# Altium integrated library My Own Capacitors.IntLib: 27 symbols
Pins are listed as number, name and electrical type; pins without a type are passive.

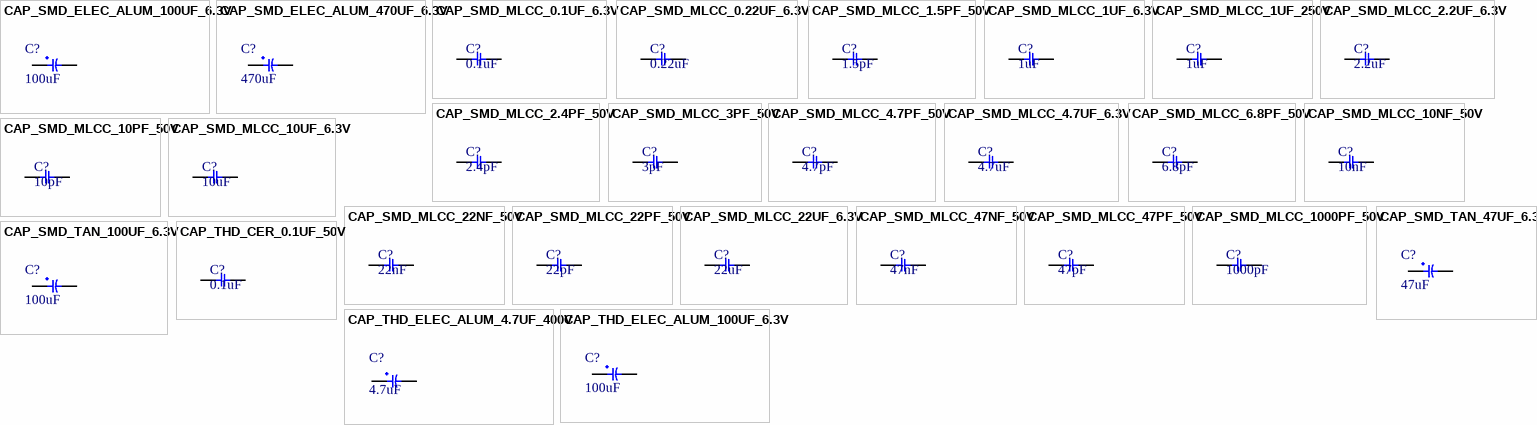
[diagram p0: symbols CAP_SMD_ELEC_ALUM_100UF_6.3V to CAP_THD_ELEC_ALUM_100UF_6.3V]

## CAP_SMD_ELEC_ALUM_100UF_6.3V
designator C?, comment 100uF
Capacitor, Aluminum Electrolytic Capacitor, SMD, D5xL5.4mm, 100uF, 6.3V, ±20%, Aluminum Electrolytic Capacitors - SMD, ROHS; Value: 100uF
footprint CAP_SMD_ELEC_ALUM_5MM_H5.4MM (Aluminum SMD Electrolytic Capacitor, 5.30mm Land Size, 5.00mm Diameter, 4.60mm Height, 5.50mm Maximum Leads Span)
footprint CAP_SMD_ELEC_ALUM_5MM_H5.4MM_SHORT (Aluminum SMD Electrolytic Capacitor, 5.30mm Land Size, 5.00mm Diameter, 4.60mm Height, 5.50mm Maximum Leads Span)
pins: 1, 2

## CAP_SMD_ELEC_ALUM_470UF_6.3V
designator C?, comment 470uF
Capacitor, Aluminum Electrolytic Capacitor, SMD, D6.3xL7.7mm, 470uF, 6.3V, ±20%, Aluminum Electrolytic Capacitors - SMD, ROHS; Value: 470uF
footprint CAP_SMD_ELEC_ALUM_6.3MM_H7.7MM (Electrolytic Cap, D: 6.3mm L: 7.7mm, Size D)
pins: 1, 2

## CAP_SMD_MLCC_0.1UF_6.3V
designator C?, comment 0.1uF
Capacitor, Ceramic (MLCC), SMD, 100nF, 6.3V, ±10%, X7R, Multilayer Ceramic Capacitors MLCC - SMD/SMT, ROHS; Part Number: LLM315R71C104MA11L; Manufacturer: Murata Electronics North America; Factory Stock: 0; Unit Price (USD): 0.9; Minimum Quantity: 1; Tolerance: ±20%; Voltage: 16V; Datasheets: http://www.murata.com/~/media/webrenewal/support/library/catalog/products/capacitor/mlcc/c02e.pdf; Image: //media.digikey.com/Renders/Murata%20Renders/1206(LLM315).jpg; Digi-Key Part Number: 490-4495-1-ND; Quantity Available: 2915; @ qty: 0; Packaging: Cut Tape (CT); Series: LLM; Part Status: Active; Value: 0.1uF; Temperature Coefficient: X7R; Operating Temperature: -55°C ~ 125°C; Features: Low ESL (Multi-Terminal); Ratings: -; Applications: Bypass, Decoupling; Mounting Type: Surface Mount, MLCC; Package / Case: -; Size / Dimension: -; Height - Seated (Max): -; Thickness (Max): -; Lead Spacing: -; Lead Style: -
footprint CAP_SMD_MLCC_C0201A_(M0603A) (CHIP Capacitor, 0.5x0.25mm, for PCBA)
footprint CAP_SMD_MLCC_C0201_(M0603) (CHIP Capacitor, 0.5x0.25mm)
footprint CAP_SMD_MLCC_C0402A_(M1005A) (CHIP Capacitor, 1.0x0.5mm, 0402, for PCBA)
footprint CAP_SMD_MLCC_C0402_(M1005) (CHIP Capacitor, 1.0x0.5mm, 0402)
footprint CAP_SMD_MLCC_C0603A_(M1608A) (CHIP Capacitor, 1.6x0.8mm, 0603 for PCBA)
footprint CAP_SMD_MLCC_C0603_(M1608) (CHIP Capacitor, 1.6x0.8mm, 0603)
footprint CAP_SMD_MLCC_C0805A_(M2012A) (CHIP Capacitor, 2.0X1.3mm, 0805, for PCBA)
footprint CAP_SMD_MLCC_C0805_(M2012) (CHIP Capacitor, 2.0X1.3mm, 0805)
footprint CAP_SMD_MLCC_C1206A_(M3216A) (CHIP Capacitor, 3.2X1.6mm, 1206, for PCBA)
footprint CAP_SMD_MLCC_C1206_(M3216) (CHIP Capacitor, 3.2X1.6mm, 1206)
footprint CAP_SMD_MLCC_C1812_(M4532) (Chip Capacitor, 4.5x3.2mm, 1812)
footprint CAP_SMD_MLCC_C1210_(M3225) (CHIP Capacitor, 3.2X2.5mm, 1210, 3225)
footprint CAP_SMD_MLCC_C0603_(M1608)_C0402A_(M1005A) (Resistor, SMD, 1.6x0.8mm, 0603)
footprint CAP_SMD_MLCC_C0603_(M1608)_C0402A_(M1005A)_THD/SMD_SMD (Resistor, SMD, 1.6x0.8mm, 0603)
pins: 1, 2

## CAP_SMD_MLCC_0.22UF_6.3V
designator C?, comment 0.22uF
Capacitor, Ceramic (MLCC), SMD, 220nF, 6.3V, ±10%, X7R, Multilayer Ceramic Capacitors MLCC - SMD/SMT, ROHS; Part Number: GRM319R71C224KA01D; Manufacturer: Murata Electronics North America; Factory Stock: 0; Unit Price (USD): 0.26; Minimum Quantity: 1; Voltage: 16V; Datasheets: http://www.murata.com/~/media/webrenewal/support/library/catalog/products/capacitor/mlcc/c02e.pdf; Image: //media.digikey.com/Renders/Murata%20Renders/GR331BD72E473KW01L.jpg; Digi-Key Part Number: 490-11608-1-ND; Quantity Available: 10161; @ qty: 0; Packaging: Cut Tape (CT); Series: GRM; Part Status: Active; Value: 0.22uF; Tolerance: ±10%; Temperature Coefficient: X7R; Operating Temperature: -55°C ~ 125°C; Features: -; Ratings: -; Applications: General Purpose; Mounting Type: Surface Mount, MLCC; Package / Case: -; Size / Dimension: -; Height - Seated (Max): -; Thickness (Max): -; Lead Spacing: -; Lead Style: -
footprint CAP_SMD_MLCC_C0201A_(M0603A) (CHIP Capacitor, 0.5x0.25mm, for PCBA)
footprint CAP_SMD_MLCC_C0201_(M0603) (CHIP Capacitor, 0.5x0.25mm)
footprint CAP_SMD_MLCC_C0402A_(M1005A) (CHIP Capacitor, 1.0x0.5mm, 0402, for PCBA)
footprint CAP_SMD_MLCC_C0402_(M1005) (CHIP Capacitor, 1.0x0.5mm, 0402)
footprint CAP_SMD_MLCC_C0603A_(M1608A) (CHIP Capacitor, 1.6x0.8mm, 0603 for PCBA)
footprint CAP_SMD_MLCC_C0603_(M1608) (CHIP Capacitor, 1.6x0.8mm, 0603)
footprint CAP_SMD_MLCC_C0805A_(M2012A) (CHIP Capacitor, 2.0X1.3mm, 0805, for PCBA)
footprint CAP_SMD_MLCC_C0805_(M2012) (CHIP Capacitor, 2.0X1.3mm, 0805)
footprint CAP_SMD_MLCC_C1206A_(M3216A) (CHIP Capacitor, 3.2X1.6mm, 1206, for PCBA)
footprint CAP_SMD_MLCC_C1206_(M3216) (CHIP Capacitor, 3.2X1.6mm, 1206)
footprint CAP_SMD_MLCC_C1812_(M4532) (Chip Capacitor, 4.5x3.2mm, 1812)
footprint CAP_SMD_MLCC_C1210_(M3225) (CHIP Capacitor, 3.2X2.5mm, 1210, 3225)
footprint CAP_SMD_MLCC_C0603_(M1608)_C0402A_(M1005A) (Resistor, SMD, 1.6x0.8mm, 0603)
pins: 1, 2

## CAP_SMD_MLCC_1.5PF_50V
designator C?, comment 1.5pF
Capacitor, Ceramic (MLCC), SMD, 1.5pF, 50V, ±5%, C0G, Multilayer Ceramic Capacitors MLCC - SMD/SMT, ROHS; Part Number: GRM319R71C224KA01D; Manufacturer: Murata Electronics North America; Factory Stock: 0; Unit Price (USD): 0.26; Minimum Quantity: 1; Tolerance: ±10%; Voltage: 16V; Temperature Coefficient: X7R; Datasheets: http://www.murata.com/~/media/webrenewal/support/library/catalog/products/capacitor/mlcc/c02e.pdf; Image: //media.digikey.com/Renders/Murata%20Renders/GR331BD72E473KW01L.jpg; Digi-Key Part Number: 490-11608-1-ND; Quantity Available: 10161; @ qty: 0; Packaging: Cut Tape (CT); Series: GRM; Part Status: Active; Value: 1.5pF; Operating Temperature: -55°C ~ 125°C; Features: -; Ratings: -; Applications: General Purpose; Mounting Type: Surface Mount, MLCC; Package / Case: -; Size / Dimension: -; Height - Seated (Max): -; Thickness (Max): -; Lead Spacing: -; Lead Style: -
footprint CAP_SMD_MLCC_C0201A_(M0603A) (CHIP Capacitor, 0.5x0.25mm, for PCBA)
footprint CAP_SMD_MLCC_C0201_(M0603) (CHIP Capacitor, 0.5x0.25mm)
footprint CAP_SMD_MLCC_C0402A_(M1005A) (CHIP Capacitor, 1.0x0.5mm, 0402, for PCBA)
footprint CAP_SMD_MLCC_C0402_(M1005) (CHIP Capacitor, 1.0x0.5mm, 0402)
footprint CAP_SMD_MLCC_C0603A_(M1608A) (CHIP Capacitor, 1.6x0.8mm, 0603 for PCBA)
footprint CAP_SMD_MLCC_C0603_(M1608) (CHIP Capacitor, 1.6x0.8mm, 0603)
footprint CAP_SMD_MLCC_C0805A_(M2012A) (CHIP Capacitor, 2.0X1.3mm, 0805, for PCBA)
footprint CAP_SMD_MLCC_C0805_(M2012) (CHIP Capacitor, 2.0X1.3mm, 0805)
footprint CAP_SMD_MLCC_C1206A_(M3216A) (CHIP Capacitor, 3.2X1.6mm, 1206, for PCBA)
footprint CAP_SMD_MLCC_C1206_(M3216) (CHIP Capacitor, 3.2X1.6mm, 1206)
footprint CAP_SMD_MLCC_C1812_(M4532) (Chip Capacitor, 4.5x3.2mm, 1812)
footprint CAP_SMD_MLCC_C1210_(M3225) (CHIP Capacitor, 3.2X2.5mm, 1210, 3225)
footprint CAP_SMD_MLCC_C0603_(M1608)_C0402A_(M1005A) (Resistor, SMD, 1.6x0.8mm, 0603)
pins: 1, 2

## CAP_SMD_MLCC_1UF_6.3V
designator C?, comment 1uF
Capacitor, Ceramic (MLCC), SMD, 1uF, 6.3V, ±10%, X5R, Multilayer Ceramic Capacitors MLCC - SMD/SMT, ROHS; Part Number: GRM319R61A105KA01D; Manufacturer: Murata Electronics North America; Factory Stock: 0; Unit Price (USD): 0.28; Minimum Quantity: 1; Voltage: 10V; Datasheets: http://www.murata.com/~/media/webrenewal/support/library/catalog/products/capacitor/mlcc/c02e.pdf; Image: //media.digikey.com/Renders/Murata%20Renders/GR331BD72E473KW01L.jpg; Digi-Key Part Number: 490-11607-1-ND; Quantity Available: 3593; @ qty: 0; Packaging: Cut Tape (CT); Series: GRM; Part Status: Active; Value: 1uF; Tolerance: ±10%; Temperature Coefficient: X5R; Operating Temperature: -55°C ~ 85°C; Features: -; Ratings: -; Applications: General Purpose; Mounting Type: Surface Mount, MLCC; Package / Case: -; Size / Dimension: -; Height - Seated (Max): -; Thickness (Max): -; Lead Spacing: -; Lead Style: -
footprint CAP_SMD_MLCC_C0201A_(M0603A) (CHIP Capacitor, 0.5x0.25mm, for PCBA)
footprint CAP_SMD_MLCC_C0201_(M0603) (CHIP Capacitor, 0.5x0.25mm)
footprint CAP_SMD_MLCC_C0402A_(M1005A) (CHIP Capacitor, 1.0x0.5mm, 0402, for PCBA)
footprint CAP_SMD_MLCC_C0402_(M1005) (CHIP Capacitor, 1.0x0.5mm, 0402)
footprint CAP_SMD_MLCC_C0603A_(M1608A) (CHIP Capacitor, 1.6x0.8mm, 0603 for PCBA)
footprint CAP_SMD_MLCC_C0603_(M1608) (CHIP Capacitor, 1.6x0.8mm, 0603)
footprint CAP_SMD_MLCC_C0805A_(M2012A) (CHIP Capacitor, 2.0X1.3mm, 0805, for PCBA)
footprint CAP_SMD_MLCC_C0805_(M2012) (CHIP Capacitor, 2.0X1.3mm, 0805)
footprint CAP_SMD_MLCC_C1206A_(M3216A) (CHIP Capacitor, 3.2X1.6mm, 1206, for PCBA)
footprint CAP_SMD_MLCC_C1206_(M3216) (CHIP Capacitor, 3.2X1.6mm, 1206)
footprint CAP_SMD_MLCC_C1812_(M4532) (Chip Capacitor, 4.5x3.2mm, 1812)
footprint CAP_SMD_MLCC_C1210_(M3225) (CHIP Capacitor, 3.2X2.5mm, 1210, 3225)
footprint CAP_SMD_MLCC_C0603_(M1608)_C0402A_(M1005A) (Resistor, SMD, 1.6x0.8mm, 0603)
pins: 1, 2

## CAP_SMD_MLCC_1UF_250V
designator C?, comment 1uF
Capacitor, Ceramic (MLCC), SMD, 1uF, 250V, ±10%, X7R, Multilayer Ceramic Capacitors MLCC - SMD/SMT, ROHS; Part Number: GRM319R61A105KA01D; Manufacturer: Murata Electronics North America; Factory Stock: 0; Unit Price (USD): 0.28; Minimum Quantity: 1; Voltage: 10V; Temperature Coefficient: X5R; Datasheets: http://www.murata.com/~/media/webrenewal/support/library/catalog/products/capacitor/mlcc/c02e.pdf; Image: //media.digikey.com/Renders/Murata%20Renders/GR331BD72E473KW01L.jpg; Digi-Key Part Number: 490-11607-1-ND; Quantity Available: 3593; @ qty: 0; Packaging: Cut Tape (CT); Series: GRM; Part Status: Active; Value: 1uF; Tolerance: ±10%; Operating Temperature: -55°C ~ 85°C; Features: -; Ratings: -; Applications: General Purpose; Mounting Type: Surface Mount, MLCC; Package / Case: -; Size / Dimension: -; Height - Seated (Max): -; Thickness (Max): -; Lead Spacing: -; Lead Style: -
footprint CAP_SMD_MLCC_C1812_(M4532) (Chip Capacitor, 4.5x3.2mm, 1812)
footprint CAP_SMD_MLCC_C1210_(M3225) (CHIP Capacitor, 3.2X2.5mm, 1210, 3225)
footprint CAP_SMD_MLCC_C1210A_(M3225) (CHIP Capacitor, 3.2X2.5mm, 1210, for PCBA)
footprint CAP_THD_ELEC_ALUM_D8.0MM_H12.5MM_SHORT _SMD_C1828_#3_SMD (8MM Diameter, 3.5MM Lead Spacing Aluminium Capacitor)
pins: 1, 2

## CAP_SMD_MLCC_2.2UF_6.3V
designator C?, comment 2.2uF
Capacitor, Ceramic (MLCC), SMD, 2.2uF, 6.3V, ±10%, X5R, Multilayer Ceramic Capacitors MLCC - SMD/SMT, ROHS; Part Number: LLA315R70J225MA14L; Manufacturer: Murata Electronics North America; Factory Stock: 0; Unit Price (USD): 0.67; Minimum Quantity: 1; Tolerance: ±20%; Temperature Coefficient: X7R; Datasheets: http://www.murata.com/~/media/webrenewal/support/library/catalog/products/capacitor/mlcc/c02e.pdf; Image: //media.digikey.com/Renders/Murata%20Renders/LLA_1206(3216).jpg; Digi-Key Part Number: 490-4454-1-ND; Quantity Available: 7826; @ qty: 0; Packaging: Cut Tape (CT); Series: LLA; Part Status: Active; Value: 2.2uF; Voltage: 6.3V; Operating Temperature: -55°C ~ 125°C; Features: Low ESL (Multi-Terminal); Ratings: -; Applications: Bypass, Decoupling; Mounting Type: Surface Mount, MLCC; Package / Case: -; Size / Dimension: -; Height - Seated (Max): -; Thickness (Max): -; Lead Spacing: -; Lead Style: -
footprint CAP_SMD_MLCC_C0201A_(M0603A) (CHIP Capacitor, 0.5x0.25mm, for PCBA)
footprint CAP_SMD_MLCC_C0201_(M0603) (CHIP Capacitor, 0.5x0.25mm)
footprint CAP_SMD_MLCC_C0402A_(M1005A) (CHIP Capacitor, 1.0x0.5mm, 0402, for PCBA)
footprint CAP_SMD_MLCC_C0402_(M1005) (CHIP Capacitor, 1.0x0.5mm, 0402)
footprint CAP_SMD_MLCC_C0603A_(M1608A) (CHIP Capacitor, 1.6x0.8mm, 0603 for PCBA)
footprint CAP_SMD_MLCC_C0603_(M1608) (CHIP Capacitor, 1.6x0.8mm, 0603)
footprint CAP_SMD_MLCC_C0805A_(M2012A) (CHIP Capacitor, 2.0X1.3mm, 0805, for PCBA)
footprint CAP_SMD_MLCC_C0805_(M2012) (CHIP Capacitor, 2.0X1.3mm, 0805)
footprint CAP_SMD_MLCC_C1206A_(M3216A) (CHIP Capacitor, 3.2X1.6mm, 1206, for PCBA)
footprint CAP_SMD_MLCC_C1206_(M3216) (CHIP Capacitor, 3.2X1.6mm, 1206)
footprint CAP_SMD_MLCC_C1812_(M4532) (Chip Capacitor, 4.5x3.2mm, 1812)
footprint CAP_SMD_MLCC_C1210_(M3225) (CHIP Capacitor, 3.2X2.5mm, 1210, 3225)
footprint CAP_SMD_MLCC_C0603_(M1608)_C0402A_(M1005A) (Resistor, SMD, 1.6x0.8mm, 0603)
pins: 1, 2

## CAP_SMD_MLCC_2.4PF_50V
designator C?, comment 2.4pF
Capacitor, Ceramic (MLCC), SMD, 2.4pF, 50V, ±5%, C0G, Multilayer Ceramic Capacitors MLCC - SMD/SMT, ROHS; Part Number: GRM319R71C224KA01D; Manufacturer: Murata Electronics North America; Factory Stock: 0; Unit Price (USD): 0.26; Minimum Quantity: 1; Tolerance: ±10%; Voltage: 16V; Temperature Coefficient: X7R; Datasheets: http://www.murata.com/~/media/webrenewal/support/library/catalog/products/capacitor/mlcc/c02e.pdf; Image: //media.digikey.com/Renders/Murata%20Renders/GR331BD72E473KW01L.jpg; Digi-Key Part Number: 490-11608-1-ND; Quantity Available: 10161; @ qty: 0; Packaging: Cut Tape (CT); Series: GRM; Part Status: Active; Value: 2.4pF; Operating Temperature: -55°C ~ 125°C; Features: -; Ratings: -; Applications: General Purpose; Mounting Type: Surface Mount, MLCC; Package / Case: -; Size / Dimension: -; Height - Seated (Max): -; Thickness (Max): -; Lead Spacing: -; Lead Style: -
footprint CAP_SMD_MLCC_C0201A_(M0603A) (CHIP Capacitor, 0.5x0.25mm, for PCBA)
footprint CAP_SMD_MLCC_C0201_(M0603) (CHIP Capacitor, 0.5x0.25mm)
footprint CAP_SMD_MLCC_C0402A_(M1005A) (CHIP Capacitor, 1.0x0.5mm, 0402, for PCBA)
footprint CAP_SMD_MLCC_C0402_(M1005) (CHIP Capacitor, 1.0x0.5mm, 0402)
footprint CAP_SMD_MLCC_C0603A_(M1608A) (CHIP Capacitor, 1.6x0.8mm, 0603 for PCBA)
footprint CAP_SMD_MLCC_C0603_(M1608) (CHIP Capacitor, 1.6x0.8mm, 0603)
footprint CAP_SMD_MLCC_C0805A_(M2012A) (CHIP Capacitor, 2.0X1.3mm, 0805, for PCBA)
footprint CAP_SMD_MLCC_C0805_(M2012) (CHIP Capacitor, 2.0X1.3mm, 0805)
footprint CAP_SMD_MLCC_C1206A_(M3216A) (CHIP Capacitor, 3.2X1.6mm, 1206, for PCBA)
footprint CAP_SMD_MLCC_C1206_(M3216) (CHIP Capacitor, 3.2X1.6mm, 1206)
footprint CAP_SMD_MLCC_C1812_(M4532) (Chip Capacitor, 4.5x3.2mm, 1812)
footprint CAP_SMD_MLCC_C1210_(M3225) (CHIP Capacitor, 3.2X2.5mm, 1210, 3225)
footprint CAP_SMD_MLCC_C0603_(M1608)_C0402A_(M1005A) (Resistor, SMD, 1.6x0.8mm, 0603)
pins: 1, 2

## CAP_SMD_MLCC_3PF_50V
designator C?, comment 3pF
Capacitor, Ceramic (MLCC), SMD, 3pF, 50V, ±5%, C0G, Multilayer Ceramic Capacitors MLCC - SMD/SMT, ROHS; Part Number: GRM319R71C224KA01D; Manufacturer: Murata Electronics North America; Factory Stock: 0; Unit Price (USD): 0.26; Minimum Quantity: 1; Tolerance: ±10%; Voltage: 16V; Temperature Coefficient: X7R; Datasheets: http://www.murata.com/~/media/webrenewal/support/library/catalog/products/capacitor/mlcc/c02e.pdf; Image: //media.digikey.com/Renders/Murata%20Renders/GR331BD72E473KW01L.jpg; Digi-Key Part Number: 490-11608-1-ND; Quantity Available: 10161; @ qty: 0; Packaging: Cut Tape (CT); Series: GRM; Part Status: Active; Value: 3pF; Operating Temperature: -55°C ~ 125°C; Features: -; Ratings: -; Applications: General Purpose; Mounting Type: Surface Mount, MLCC; Package / Case: -; Size / Dimension: -; Height - Seated (Max): -; Thickness (Max): -; Lead Spacing: -; Lead Style: -
footprint CAP_SMD_MLCC_C0201A_(M0603A) (CHIP Capacitor, 0.5x0.25mm, for PCBA)
footprint CAP_SMD_MLCC_C0201_(M0603) (CHIP Capacitor, 0.5x0.25mm)
footprint CAP_SMD_MLCC_C0402A_(M1005A) (CHIP Capacitor, 1.0x0.5mm, 0402, for PCBA)
footprint CAP_SMD_MLCC_C0402_(M1005) (CHIP Capacitor, 1.0x0.5mm, 0402)
footprint CAP_SMD_MLCC_C0603A_(M1608A) (CHIP Capacitor, 1.6x0.8mm, 0603 for PCBA)
footprint CAP_SMD_MLCC_C0603_(M1608) (CHIP Capacitor, 1.6x0.8mm, 0603)
footprint CAP_SMD_MLCC_C0805A_(M2012A) (CHIP Capacitor, 2.0X1.3mm, 0805, for PCBA)
footprint CAP_SMD_MLCC_C0805_(M2012) (CHIP Capacitor, 2.0X1.3mm, 0805)
footprint CAP_SMD_MLCC_C1206A_(M3216A) (CHIP Capacitor, 3.2X1.6mm, 1206, for PCBA)
footprint CAP_SMD_MLCC_C1206_(M3216) (CHIP Capacitor, 3.2X1.6mm, 1206)
footprint CAP_SMD_MLCC_C1812_(M4532) (Chip Capacitor, 4.5x3.2mm, 1812)
footprint CAP_SMD_MLCC_C1210_(M3225) (CHIP Capacitor, 3.2X2.5mm, 1210, 3225)
footprint CAP_SMD_MLCC_C0603_(M1608)_C0402A_(M1005A) (Resistor, SMD, 1.6x0.8mm, 0603)
pins: 1, 2

## CAP_SMD_MLCC_4.7PF_50V
designator C?, comment 4.7pF
Capacitor, Ceramic (MLCC), SMD, 4.7pF, 50V, ±5%, C0G, Multilayer Ceramic Capacitors MLCC - SMD/SMT, ROHS; Part Number: GRM31CR60J106KA01L; Manufacturer: Murata Electronics North America; Factory Stock: 0; Unit Price (USD): 0.24; Minimum Quantity: 1; Tolerance: ±10%; Voltage: 6.3V; Temperature Coefficient: X5R; Datasheets: http://www.murata.com/~/media/webrenewal/support/library/catalog/products/capacitor/mlcc/c02e.pdf; Image: //media.digikey.com/Renders/Murata%20Renders/GR331BD72E473KW01L.jpg; Digi-Key Part Number: 490-12610-1-ND; Quantity Available: 12001; @ qty: 0; Packaging: Cut Tape (CT); Series: GRM; Part Status: Active; Value: 4.7pF; Operating Temperature: -55°C ~ 85°C; Features: -; Ratings: -; Applications: General Purpose; Mounting Type: Surface Mount, MLCC; Package / Case: -; Size / Dimension: -; Height - Seated (Max): -; Thickness (Max): -; Lead Spacing: -; Lead Style: -
footprint CAP_SMD_MLCC_C0201A_(M0603A) (CHIP Capacitor, 0.5x0.25mm, for PCBA)
footprint CAP_SMD_MLCC_C0201_(M0603) (CHIP Capacitor, 0.5x0.25mm)
footprint CAP_SMD_MLCC_C0402A_(M1005A) (CHIP Capacitor, 1.0x0.5mm, 0402, for PCBA)
footprint CAP_SMD_MLCC_C0402_(M1005) (CHIP Capacitor, 1.0x0.5mm, 0402)
footprint CAP_SMD_MLCC_C0603A_(M1608A) (CHIP Capacitor, 1.6x0.8mm, 0603 for PCBA)
footprint CAP_SMD_MLCC_C0603_(M1608) (CHIP Capacitor, 1.6x0.8mm, 0603)
footprint CAP_SMD_MLCC_C0805A_(M2012A) (CHIP Capacitor, 2.0X1.3mm, 0805, for PCBA)
footprint CAP_SMD_MLCC_C0805_(M2012) (CHIP Capacitor, 2.0X1.3mm, 0805)
footprint CAP_SMD_MLCC_C1206A_(M3216A) (CHIP Capacitor, 3.2X1.6mm, 1206, for PCBA)
footprint CAP_SMD_MLCC_C1206_(M3216) (CHIP Capacitor, 3.2X1.6mm, 1206)
footprint CAP_SMD_MLCC_C1812_(M4532) (Chip Capacitor, 4.5x3.2mm, 1812)
footprint CAP_SMD_MLCC_C1210_(M3225) (CHIP Capacitor, 3.2X2.5mm, 1210, 3225)
footprint CAP_SMD_MLCC_C0603_(M1608)_C0402A_(M1005A) (Resistor, SMD, 1.6x0.8mm, 0603)
pins: 1, 2

## CAP_SMD_MLCC_4.7UF_6.3V
designator C?, comment 4.7uF
Capacitor, Ceramic (MLCC), SMD, 4.7uF, 6.3V, ±20%, X5R, Multilayer Ceramic Capacitors MLCC - SMD/SMT, ROHS; Part Number: GRM31CR60J106KA01L; Manufacturer: Murata Electronics North America; Factory Stock: 0; Unit Price (USD): 0.24; Minimum Quantity: 1; Tolerance: ±10%; Datasheets: http://www.murata.com/~/media/webrenewal/support/library/catalog/products/capacitor/mlcc/c02e.pdf; Image: //media.digikey.com/Renders/Murata%20Renders/GR331BD72E473KW01L.jpg; Digi-Key Part Number: 490-12610-1-ND; Quantity Available: 12001; @ qty: 0; Packaging: Cut Tape (CT); Series: GRM; Part Status: Active; Value: 4.7uF; Voltage: 6.3V; Temperature Coefficient: X5R; Operating Temperature: -55°C ~ 85°C; Features: -; Ratings: -; Applications: General Purpose; Mounting Type: Surface Mount, MLCC; Package / Case: -; Size / Dimension: -; Height - Seated (Max): -; Thickness (Max): -; Lead Spacing: -; Lead Style: -
footprint CAP_SMD_MLCC_C0201A_(M0603A) (CHIP Capacitor, 0.5x0.25mm, for PCBA)
footprint CAP_SMD_MLCC_C0201_(M0603) (CHIP Capacitor, 0.5x0.25mm)
footprint CAP_SMD_MLCC_C0402A_(M1005A) (CHIP Capacitor, 1.0x0.5mm, 0402, for PCBA)
footprint CAP_SMD_MLCC_C0402_(M1005) (CHIP Capacitor, 1.0x0.5mm, 0402)
footprint CAP_SMD_MLCC_C0603A_(M1608A) (CHIP Capacitor, 1.6x0.8mm, 0603 for PCBA)
footprint CAP_SMD_MLCC_C0603_(M1608) (CHIP Capacitor, 1.6x0.8mm, 0603)
footprint CAP_SMD_MLCC_C0805A_(M2012A) (CHIP Capacitor, 2.0X1.3mm, 0805, for PCBA)
footprint CAP_SMD_MLCC_C0805_(M2012) (CHIP Capacitor, 2.0X1.3mm, 0805)
footprint CAP_SMD_MLCC_C1206A_(M3216A) (CHIP Capacitor, 3.2X1.6mm, 1206, for PCBA)
footprint CAP_SMD_MLCC_C1206_(M3216) (CHIP Capacitor, 3.2X1.6mm, 1206)
footprint CAP_SMD_MLCC_C1812_(M4532) (Chip Capacitor, 4.5x3.2mm, 1812)
footprint CAP_SMD_MLCC_C1210_(M3225) (CHIP Capacitor, 3.2X2.5mm, 1210, 3225)
footprint CAP_SMD_MLCC_C0603_(M1608)_C0402A_(M1005A) (Resistor, SMD, 1.6x0.8mm, 0603)
pins: 1, 2

## CAP_SMD_MLCC_6.8PF_50V
designator C?, comment 6.8pF
Capacitor, Ceramic (MLCC), SMD, 6.8pF, 50V, ±5%, C0G, Multilayer Ceramic Capacitors MLCC - SMD/SMT, ROHS; Part Number: GRM319R71C224KA01D; Manufacturer: Murata Electronics North America; Factory Stock: 0; Unit Price (USD): 0.26; Minimum Quantity: 1; Tolerance: ±10%; Voltage: 16V; Temperature Coefficient: X7R; Datasheets: http://www.murata.com/~/media/webrenewal/support/library/catalog/products/capacitor/mlcc/c02e.pdf; Image: //media.digikey.com/Renders/Murata%20Renders/GR331BD72E473KW01L.jpg; Digi-Key Part Number: 490-11608-1-ND; Quantity Available: 10161; @ qty: 0; Packaging: Cut Tape (CT); Series: GRM; Part Status: Active; Value: 6.8pF; Operating Temperature: -55°C ~ 125°C; Features: -; Ratings: -; Applications: General Purpose; Mounting Type: Surface Mount, MLCC; Package / Case: -; Size / Dimension: -; Height - Seated (Max): -; Thickness (Max): -; Lead Spacing: -; Lead Style: -
footprint CAP_SMD_MLCC_C0201A_(M0603A) (CHIP Capacitor, 0.5x0.25mm, for PCBA)
footprint CAP_SMD_MLCC_C0201_(M0603) (CHIP Capacitor, 0.5x0.25mm)
footprint CAP_SMD_MLCC_C0402A_(M1005A) (CHIP Capacitor, 1.0x0.5mm, 0402, for PCBA)
footprint CAP_SMD_MLCC_C0402_(M1005) (CHIP Capacitor, 1.0x0.5mm, 0402)
footprint CAP_SMD_MLCC_C0603A_(M1608A) (CHIP Capacitor, 1.6x0.8mm, 0603 for PCBA)
footprint CAP_SMD_MLCC_C0603_(M1608) (CHIP Capacitor, 1.6x0.8mm, 0603)
footprint CAP_SMD_MLCC_C0805A_(M2012A) (CHIP Capacitor, 2.0X1.3mm, 0805, for PCBA)
footprint CAP_SMD_MLCC_C0805_(M2012) (CHIP Capacitor, 2.0X1.3mm, 0805)
footprint CAP_SMD_MLCC_C1206A_(M3216A) (CHIP Capacitor, 3.2X1.6mm, 1206, for PCBA)
footprint CAP_SMD_MLCC_C1206_(M3216) (CHIP Capacitor, 3.2X1.6mm, 1206)
footprint CAP_SMD_MLCC_C1812_(M4532) (Chip Capacitor, 4.5x3.2mm, 1812)
footprint CAP_SMD_MLCC_C1210_(M3225) (CHIP Capacitor, 3.2X2.5mm, 1210, 3225)
footprint CAP_SMD_MLCC_C0603_(M1608)_C0402A_(M1005A) (Resistor, SMD, 1.6x0.8mm, 0603)
pins: 1, 2

## CAP_SMD_MLCC_10NF_50V
designator C?, comment 10nF
Capacitor, Ceramic (MLCC), SMD, 10nF, 50V, ±10%, X7R, Multilayer Ceramic Capacitors MLCC - SMD/SMT, ROHS; Part Number: GRM31CR60J106KA01L; Manufacturer: Murata Electronics North America; Factory Stock: 0; Unit Price (USD): 0.24; Minimum Quantity: 1; Voltage: 6.3V; Temperature Coefficient: X5R; Datasheets: http://www.murata.com/~/media/webrenewal/support/library/catalog/products/capacitor/mlcc/c02e.pdf; Image: //media.digikey.com/Renders/Murata%20Renders/GR331BD72E473KW01L.jpg; Digi-Key Part Number: 490-12610-1-ND; Quantity Available: 12001; @ qty: 0; Packaging: Cut Tape (CT); Series: GRM; Part Status: Active; Value: 10nF; Tolerance: ±10%; Operating Temperature: -55°C ~ 85°C; Features: -; Ratings: -; Applications: General Purpose; Mounting Type: Surface Mount, MLCC; Package / Case: -; Size / Dimension: -; Height - Seated (Max): -; Thickness (Max): -; Lead Spacing: -; Lead Style: -
footprint CAP_SMD_MLCC_C0201A_(M0603A) (CHIP Capacitor, 0.5x0.25mm, for PCBA)
footprint CAP_SMD_MLCC_C0201_(M0603) (CHIP Capacitor, 0.5x0.25mm)
footprint CAP_SMD_MLCC_C0402A_(M1005A) (CHIP Capacitor, 1.0x0.5mm, 0402, for PCBA)
footprint CAP_SMD_MLCC_C0402_(M1005) (CHIP Capacitor, 1.0x0.5mm, 0402)
footprint CAP_SMD_MLCC_C0603A_(M1608A) (CHIP Capacitor, 1.6x0.8mm, 0603 for PCBA)
footprint CAP_SMD_MLCC_C0603_(M1608) (CHIP Capacitor, 1.6x0.8mm, 0603)
footprint CAP_SMD_MLCC_C0805A_(M2012A) (CHIP Capacitor, 2.0X1.3mm, 0805, for PCBA)
footprint CAP_SMD_MLCC_C0805_(M2012) (CHIP Capacitor, 2.0X1.3mm, 0805)
footprint CAP_SMD_MLCC_C1206A_(M3216A) (CHIP Capacitor, 3.2X1.6mm, 1206, for PCBA)
footprint CAP_SMD_MLCC_C1206_(M3216) (CHIP Capacitor, 3.2X1.6mm, 1206)
footprint CAP_SMD_MLCC_C1812_(M4532) (Chip Capacitor, 4.5x3.2mm, 1812)
footprint CAP_SMD_MLCC_C1210_(M3225) (CHIP Capacitor, 3.2X2.5mm, 1210, 3225)
footprint CAP_SMD_MLCC_C0603_(M1608)_C0402A_(M1005A) (Resistor, SMD, 1.6x0.8mm, 0603)
pins: 1, 2

## CAP_SMD_MLCC_10PF_50V
designator C?, comment 10pF
Capacitor, Ceramic (MLCC), SMD, 10pF, 50V, ±5%, C0G, Multilayer Ceramic Capacitors MLCC - SMD/SMT, ROHS; Part Number: GRM319R71C224KA01D; Manufacturer: Murata Electronics North America; Factory Stock: 0; Unit Price (USD): 0.26; Minimum Quantity: 1; Tolerance: ±10%; Voltage: 16V; Temperature Coefficient: X7R; Datasheets: http://www.murata.com/~/media/webrenewal/support/library/catalog/products/capacitor/mlcc/c02e.pdf; Image: //media.digikey.com/Renders/Murata%20Renders/GR331BD72E473KW01L.jpg; Digi-Key Part Number: 490-11608-1-ND; Quantity Available: 10161; @ qty: 0; Packaging: Cut Tape (CT); Series: GRM; Part Status: Active; Value: 10pF; Operating Temperature: -55°C ~ 125°C; Features: -; Ratings: -; Applications: General Purpose; Mounting Type: Surface Mount, MLCC; Package / Case: -; Size / Dimension: -; Height - Seated (Max): -; Thickness (Max): -; Lead Spacing: -; Lead Style: -
footprint CAP_SMD_MLCC_C0201A_(M0603A) (CHIP Capacitor, 0.5x0.25mm, for PCBA)
footprint CAP_SMD_MLCC_C0201_(M0603) (CHIP Capacitor, 0.5x0.25mm)
footprint CAP_SMD_MLCC_C0402A_(M1005A) (CHIP Capacitor, 1.0x0.5mm, 0402, for PCBA)
footprint CAP_SMD_MLCC_C0402_(M1005) (CHIP Capacitor, 1.0x0.5mm, 0402)
footprint CAP_SMD_MLCC_C0603A_(M1608A) (CHIP Capacitor, 1.6x0.8mm, 0603 for PCBA)
footprint CAP_SMD_MLCC_C0603_(M1608) (CHIP Capacitor, 1.6x0.8mm, 0603)
footprint CAP_SMD_MLCC_C0805A_(M2012A) (CHIP Capacitor, 2.0X1.3mm, 0805, for PCBA)
footprint CAP_SMD_MLCC_C0805_(M2012) (CHIP Capacitor, 2.0X1.3mm, 0805)
footprint CAP_SMD_MLCC_C1206A_(M3216A) (CHIP Capacitor, 3.2X1.6mm, 1206, for PCBA)
footprint CAP_SMD_MLCC_C1206_(M3216) (CHIP Capacitor, 3.2X1.6mm, 1206)
footprint CAP_SMD_MLCC_C1812_(M4532) (Chip Capacitor, 4.5x3.2mm, 1812)
footprint CAP_SMD_MLCC_C1210_(M3225) (CHIP Capacitor, 3.2X2.5mm, 1210, 3225)
footprint CAP_SMD_MLCC_C0603_(M1608)_C0402A_(M1005A) (Resistor, SMD, 1.6x0.8mm, 0603)
pins: 1, 2

## CAP_SMD_MLCC_10UF_6.3V
designator C?, comment 10uF
Capacitor, Ceramic (MLCC), SMD, 10uF, 6.3V, ±20%, X5R, Multilayer Ceramic Capacitors MLCC - SMD/SMT, ROHS; Part Number: GRM31CR60J106KA01L; Manufacturer: Murata Electronics North America; Factory Stock: 0; Unit Price (USD): 0.24; Minimum Quantity: 1; Tolerance: ±10%; Datasheets: http://www.murata.com/~/media/webrenewal/support/library/catalog/products/capacitor/mlcc/c02e.pdf; Image: //media.digikey.com/Renders/Murata%20Renders/GR331BD72E473KW01L.jpg; Digi-Key Part Number: 490-12610-1-ND; Quantity Available: 12001; @ qty: 0; Packaging: Cut Tape (CT); Series: GRM; Part Status: Active; Value: 10uF; Voltage: 6.3V; Temperature Coefficient: X5R; Operating Temperature: -55°C ~ 85°C; Features: -; Ratings: -; Applications: General Purpose; Mounting Type: Surface Mount, MLCC; Package / Case: -; Size / Dimension: -; Height - Seated (Max): -; Thickness (Max): -; Lead Spacing: -; Lead Style: -
footprint CAP_SMD_MLCC_C0201A_(M0603A) (CHIP Capacitor, 0.5x0.25mm, for PCBA)
footprint CAP_SMD_MLCC_C0201_(M0603) (CHIP Capacitor, 0.5x0.25mm)
footprint CAP_SMD_MLCC_C0402A_(M1005A) (CHIP Capacitor, 1.0x0.5mm, 0402, for PCBA)
footprint CAP_SMD_MLCC_C0402_(M1005) (CHIP Capacitor, 1.0x0.5mm, 0402)
footprint CAP_SMD_MLCC_C0603A_(M1608A) (CHIP Capacitor, 1.6x0.8mm, 0603 for PCBA)
footprint CAP_SMD_MLCC_C0603_(M1608) (CHIP Capacitor, 1.6x0.8mm, 0603)
footprint CAP_SMD_MLCC_C0805A_(M2012A) (CHIP Capacitor, 2.0X1.3mm, 0805, for PCBA)
footprint CAP_SMD_MLCC_C0805_(M2012) (CHIP Capacitor, 2.0X1.3mm, 0805)
footprint CAP_SMD_MLCC_C1206A_(M3216A) (CHIP Capacitor, 3.2X1.6mm, 1206, for PCBA)
footprint CAP_SMD_MLCC_C1206_(M3216) (CHIP Capacitor, 3.2X1.6mm, 1206)
footprint CAP_SMD_MLCC_C1812_(M4532) (Chip Capacitor, 4.5x3.2mm, 1812)
footprint CAP_SMD_MLCC_C1210_(M3225) (CHIP Capacitor, 3.2X2.5mm, 1210, 3225)
footprint CAP_SMD_MLCC_C0603_(M1608)_C0402A_(M1005A) (Resistor, SMD, 1.6x0.8mm, 0603)
pins: 1, 2

## CAP_SMD_MLCC_22NF_50V
designator C?, comment 22nF
Capacitor, Ceramic (MLCC), SMD, 22nF, 50V, ±10%, X7R, Multilayer Ceramic Capacitors MLCC - SMD/SMT, ROHS; Part Number: GRM31CR60J106KA01L; Manufacturer: Murata Electronics North America; Factory Stock: 0; Unit Price (USD): 0.24; Minimum Quantity: 1; Voltage: 6.3V; Temperature Coefficient: X5R; Datasheets: http://www.murata.com/~/media/webrenewal/support/library/catalog/products/capacitor/mlcc/c02e.pdf; Image: //media.digikey.com/Renders/Murata%20Renders/GR331BD72E473KW01L.jpg; Digi-Key Part Number: 490-12610-1-ND; Quantity Available: 12001; @ qty: 0; Packaging: Cut Tape (CT); Series: GRM; Part Status: Active; Value: 22nF; Tolerance: ±10%; Operating Temperature: -55°C ~ 85°C; Features: -; Ratings: -; Applications: General Purpose; Mounting Type: Surface Mount, MLCC; Package / Case: -; Size / Dimension: -; Height - Seated (Max): -; Thickness (Max): -; Lead Spacing: -; Lead Style: -
footprint CAP_SMD_MLCC_C0201A_(M0603A) (CHIP Capacitor, 0.5x0.25mm, for PCBA)
footprint CAP_SMD_MLCC_C0201_(M0603) (CHIP Capacitor, 0.5x0.25mm)
footprint CAP_SMD_MLCC_C0402A_(M1005A) (CHIP Capacitor, 1.0x0.5mm, 0402, for PCBA)
footprint CAP_SMD_MLCC_C0402_(M1005) (CHIP Capacitor, 1.0x0.5mm, 0402)
footprint CAP_SMD_MLCC_C0603A_(M1608A) (CHIP Capacitor, 1.6x0.8mm, 0603 for PCBA)
footprint CAP_SMD_MLCC_C0603_(M1608) (CHIP Capacitor, 1.6x0.8mm, 0603)
footprint CAP_SMD_MLCC_C0805A_(M2012A) (CHIP Capacitor, 2.0X1.3mm, 0805, for PCBA)
footprint CAP_SMD_MLCC_C0805_(M2012) (CHIP Capacitor, 2.0X1.3mm, 0805)
footprint CAP_SMD_MLCC_C1206A_(M3216A) (CHIP Capacitor, 3.2X1.6mm, 1206, for PCBA)
footprint CAP_SMD_MLCC_C1206_(M3216) (CHIP Capacitor, 3.2X1.6mm, 1206)
footprint CAP_SMD_MLCC_C1812_(M4532) (Chip Capacitor, 4.5x3.2mm, 1812)
footprint CAP_SMD_MLCC_C1210_(M3225) (CHIP Capacitor, 3.2X2.5mm, 1210, 3225)
footprint CAP_SMD_MLCC_C0603_(M1608)_C0402A_(M1005A) (Resistor, SMD, 1.6x0.8mm, 0603)
pins: 1, 2

## CAP_SMD_MLCC_22PF_50V
designator C?, comment 22pF
Capacitor, Ceramic (MLCC), SMD, 22pF, 50V, ±5%, C0G, Multilayer Ceramic Capacitors MLCC - SMD/SMT, ROHS; Part Number: GRM319R71C224KA01D; Manufacturer: Murata Electronics North America; Factory Stock: 0; Unit Price (USD): 0.26; Minimum Quantity: 1; Tolerance: ±10%; Voltage: 16V; Temperature Coefficient: X7R; Datasheets: http://www.murata.com/~/media/webrenewal/support/library/catalog/products/capacitor/mlcc/c02e.pdf; Image: //media.digikey.com/Renders/Murata%20Renders/GR331BD72E473KW01L.jpg; Digi-Key Part Number: 490-11608-1-ND; Quantity Available: 10161; @ qty: 0; Packaging: Cut Tape (CT); Series: GRM; Part Status: Active; Value: 22pF; Operating Temperature: -55°C ~ 125°C; Features: -; Ratings: -; Applications: General Purpose; Mounting Type: Surface Mount, MLCC; Package / Case: -; Size / Dimension: -; Height - Seated (Max): -; Thickness (Max): -; Lead Spacing: -; Lead Style: -
footprint CAP_SMD_MLCC_C0201A_(M0603A) (CHIP Capacitor, 0.5x0.25mm, for PCBA)
footprint CAP_SMD_MLCC_C0201_(M0603) (CHIP Capacitor, 0.5x0.25mm)
footprint CAP_SMD_MLCC_C0402A_(M1005A) (CHIP Capacitor, 1.0x0.5mm, 0402, for PCBA)
footprint CAP_SMD_MLCC_C0402_(M1005) (CHIP Capacitor, 1.0x0.5mm, 0402)
footprint CAP_SMD_MLCC_C0603A_(M1608A) (CHIP Capacitor, 1.6x0.8mm, 0603 for PCBA)
footprint CAP_SMD_MLCC_C0603_(M1608) (CHIP Capacitor, 1.6x0.8mm, 0603)
footprint CAP_SMD_MLCC_C0805A_(M2012A) (CHIP Capacitor, 2.0X1.3mm, 0805, for PCBA)
footprint CAP_SMD_MLCC_C0805_(M2012) (CHIP Capacitor, 2.0X1.3mm, 0805)
footprint CAP_SMD_MLCC_C1206A_(M3216A) (CHIP Capacitor, 3.2X1.6mm, 1206, for PCBA)
footprint CAP_SMD_MLCC_C1206_(M3216) (CHIP Capacitor, 3.2X1.6mm, 1206)
footprint CAP_SMD_MLCC_C1812_(M4532) (Chip Capacitor, 4.5x3.2mm, 1812)
footprint CAP_SMD_MLCC_C1210_(M3225) (CHIP Capacitor, 3.2X2.5mm, 1210, 3225)
footprint CAP_SMD_MLCC_C0603_(M1608)_C0402A_(M1005A) (Resistor, SMD, 1.6x0.8mm, 0603)
pins: 1, 2

## CAP_SMD_MLCC_22UF_6.3V
designator C?, comment 22uF
Capacitor, Ceramic (MLCC), SMD, 22uF, 6.3V, ±20%, X5R, Multilayer Ceramic Capacitors MLCC - SMD/SMT, ROHS; Part Number: GRM31CR60J226KE19L; Manufacturer: Murata Electronics North America; Factory Stock: 0; Unit Price (USD): 0.35; Minimum Quantity: 1; Tolerance: ±10%; Datasheets: http://www.murata.com/~/media/webrenewal/support/library/catalog/products/capacitor/mlcc/c02e.pdf; Image: //media.digikey.com/Renders/Murata%20Renders/GR331BD72E473KW01L.jpg; Digi-Key Part Number: 490-1824-1-ND; Quantity Available: 42035; @ qty: 0; Packaging: Cut Tape (CT); Series: GRM; Part Status: Active; Value: 22uF; Voltage: 6.3V; Temperature Coefficient: X5R; Operating Temperature: -55°C ~ 85°C; Features: -; Ratings: -; Applications: General Purpose; Mounting Type: Surface Mount, MLCC; Package / Case: -; Size / Dimension: -; Height - Seated (Max): -; Thickness (Max): -; Lead Spacing: -; Lead Style: -
footprint CAP_SMD_MLCC_C0201A_(M0603A) (CHIP Capacitor, 0.5x0.25mm, for PCBA)
footprint CAP_SMD_MLCC_C0201_(M0603) (CHIP Capacitor, 0.5x0.25mm)
footprint CAP_SMD_MLCC_C0402A_(M1005A) (CHIP Capacitor, 1.0x0.5mm, 0402, for PCBA)
footprint CAP_SMD_MLCC_C0402_(M1005) (CHIP Capacitor, 1.0x0.5mm, 0402)
footprint CAP_SMD_MLCC_C0603A_(M1608A) (CHIP Capacitor, 1.6x0.8mm, 0603 for PCBA)
footprint CAP_SMD_MLCC_C0603_(M1608) (CHIP Capacitor, 1.6x0.8mm, 0603)
footprint CAP_SMD_MLCC_C0805A_(M2012A) (CHIP Capacitor, 2.0X1.3mm, 0805, for PCBA)
footprint CAP_SMD_MLCC_C0805_(M2012) (CHIP Capacitor, 2.0X1.3mm, 0805)
footprint CAP_SMD_MLCC_C1206A_(M3216A) (CHIP Capacitor, 3.2X1.6mm, 1206, for PCBA)
footprint CAP_SMD_MLCC_C1206_(M3216) (CHIP Capacitor, 3.2X1.6mm, 1206)
footprint CAP_SMD_MLCC_C1812_(M4532) (Chip Capacitor, 4.5x3.2mm, 1812)
footprint CAP_SMD_MLCC_C1210_(M3225) (CHIP Capacitor, 3.2X2.5mm, 1210, 3225)
footprint CAP_SMD_MLCC_C0603_(M1608)_C0402A_(M1005A) (Resistor, SMD, 1.6x0.8mm, 0603)
pins: 1, 2

## CAP_SMD_MLCC_47NF_50V
designator C?, comment 47nF
Capacitor, Ceramic (MLCC), SMD, 47nF, 50V, ±10%, X7R, Multilayer Ceramic Capacitors MLCC - SMD/SMT, ROHS; Part Number: GRM319R71C224KA01D; Manufacturer: Murata Electronics North America; Factory Stock: 0; Unit Price (USD): 0.26; Minimum Quantity: 1; Voltage: 16V; Datasheets: http://www.murata.com/~/media/webrenewal/support/library/catalog/products/capacitor/mlcc/c02e.pdf; Image: //media.digikey.com/Renders/Murata%20Renders/GR331BD72E473KW01L.jpg; Digi-Key Part Number: 490-11608-1-ND; Quantity Available: 10161; @ qty: 0; Packaging: Cut Tape (CT); Series: GRM; Part Status: Active; Value: 47nF; Tolerance: ±10%; Temperature Coefficient: X7R; Operating Temperature: -55°C ~ 125°C; Features: -; Ratings: -; Applications: General Purpose; Mounting Type: Surface Mount, MLCC; Package / Case: -; Size / Dimension: -; Height - Seated (Max): -; Thickness (Max): -; Lead Spacing: -; Lead Style: -
footprint CAP_SMD_MLCC_C0201A_(M0603A) (CHIP Capacitor, 0.5x0.25mm, for PCBA)
footprint CAP_SMD_MLCC_C0201_(M0603) (CHIP Capacitor, 0.5x0.25mm)
footprint CAP_SMD_MLCC_C0402A_(M1005A) (CHIP Capacitor, 1.0x0.5mm, 0402, for PCBA)
footprint CAP_SMD_MLCC_C0402_(M1005) (CHIP Capacitor, 1.0x0.5mm, 0402)
footprint CAP_SMD_MLCC_C0603A_(M1608A) (CHIP Capacitor, 1.6x0.8mm, 0603 for PCBA)
footprint CAP_SMD_MLCC_C0603_(M1608) (CHIP Capacitor, 1.6x0.8mm, 0603)
footprint CAP_SMD_MLCC_C0805A_(M2012A) (CHIP Capacitor, 2.0X1.3mm, 0805, for PCBA)
footprint CAP_SMD_MLCC_C0805_(M2012) (CHIP Capacitor, 2.0X1.3mm, 0805)
footprint CAP_SMD_MLCC_C1206A_(M3216A) (CHIP Capacitor, 3.2X1.6mm, 1206, for PCBA)
footprint CAP_SMD_MLCC_C1206_(M3216) (CHIP Capacitor, 3.2X1.6mm, 1206)
footprint CAP_SMD_MLCC_C1812_(M4532) (Chip Capacitor, 4.5x3.2mm, 1812)
footprint CAP_SMD_MLCC_C1210_(M3225) (CHIP Capacitor, 3.2X2.5mm, 1210, 3225)
footprint CAP_SMD_MLCC_C0603_(M1608)_C0402A_(M1005A) (Resistor, SMD, 1.6x0.8mm, 0603)
pins: 1, 2

## CAP_SMD_MLCC_47PF_50V
designator C?, comment 47pF
Capacitor, Ceramic (MLCC), SMD, 47pF, 50V, ±5%, C0G, Multilayer Ceramic Capacitors MLCC - SMD/SMT, ROHS; Part Number: GRM319R71C224KA01D; Manufacturer: Murata Electronics North America; Factory Stock: 0; Unit Price (USD): 0.26; Minimum Quantity: 1; Tolerance: ±10%; Voltage: 16V; Temperature Coefficient: X7R; Datasheets: http://www.murata.com/~/media/webrenewal/support/library/catalog/products/capacitor/mlcc/c02e.pdf; Image: //media.digikey.com/Renders/Murata%20Renders/GR331BD72E473KW01L.jpg; Digi-Key Part Number: 490-11608-1-ND; Quantity Available: 10161; @ qty: 0; Packaging: Cut Tape (CT); Series: GRM; Part Status: Active; Value: 47pF; Operating Temperature: -55°C ~ 125°C; Features: -; Ratings: -; Applications: General Purpose; Mounting Type: Surface Mount, MLCC; Package / Case: -; Size / Dimension: -; Height - Seated (Max): -; Thickness (Max): -; Lead Spacing: -; Lead Style: -
footprint CAP_SMD_MLCC_C0201A_(M0603A) (CHIP Capacitor, 0.5x0.25mm, for PCBA)
footprint CAP_SMD_MLCC_C0201_(M0603) (CHIP Capacitor, 0.5x0.25mm)
footprint CAP_SMD_MLCC_C0402A_(M1005A) (CHIP Capacitor, 1.0x0.5mm, 0402, for PCBA)
footprint CAP_SMD_MLCC_C0402_(M1005) (CHIP Capacitor, 1.0x0.5mm, 0402)
footprint CAP_SMD_MLCC_C0603A_(M1608A) (CHIP Capacitor, 1.6x0.8mm, 0603 for PCBA)
footprint CAP_SMD_MLCC_C0603_(M1608) (CHIP Capacitor, 1.6x0.8mm, 0603)
footprint CAP_SMD_MLCC_C0805A_(M2012A) (CHIP Capacitor, 2.0X1.3mm, 0805, for PCBA)
footprint CAP_SMD_MLCC_C0805_(M2012) (CHIP Capacitor, 2.0X1.3mm, 0805)
footprint CAP_SMD_MLCC_C1206A_(M3216A) (CHIP Capacitor, 3.2X1.6mm, 1206, for PCBA)
footprint CAP_SMD_MLCC_C1206_(M3216) (CHIP Capacitor, 3.2X1.6mm, 1206)
footprint CAP_SMD_MLCC_C1812_(M4532) (Chip Capacitor, 4.5x3.2mm, 1812)
footprint CAP_SMD_MLCC_C1210_(M3225) (CHIP Capacitor, 3.2X2.5mm, 1210, 3225)
footprint CAP_SMD_MLCC_C0603_(M1608)_C0402A_(M1005A) (Resistor, SMD, 1.6x0.8mm, 0603)
pins: 1, 2

## CAP_SMD_MLCC_1000PF_50V
designator C?, comment 1000pF
Capacitor, Ceramic (MLCC), SMD, 1000pF, 50V, ±5%, C0G, Multilayer Ceramic Capacitors MLCC - SMD/SMT, ROHS; Part Number: GRM319R71C224KA01D; Manufacturer: Murata Electronics North America; Factory Stock: 0; Unit Price (USD): 0.26; Minimum Quantity: 1; Tolerance: ±10%; Voltage: 16V; Temperature Coefficient: X7R; Datasheets: http://www.murata.com/~/media/webrenewal/support/library/catalog/products/capacitor/mlcc/c02e.pdf; Image: //media.digikey.com/Renders/Murata%20Renders/GR331BD72E473KW01L.jpg; Digi-Key Part Number: 490-11608-1-ND; Quantity Available: 10161; @ qty: 0; Packaging: Cut Tape (CT); Series: GRM; Part Status: Active; Value: 1000pF; Operating Temperature: -55°C ~ 125°C; Features: -; Ratings: -; Applications: General Purpose; Mounting Type: Surface Mount, MLCC; Package / Case: -; Size / Dimension: -; Height - Seated (Max): -; Thickness (Max): -; Lead Spacing: -; Lead Style: -
footprint CAP_SMD_MLCC_C0201A_(M0603A) (CHIP Capacitor, 0.5x0.25mm, for PCBA)
footprint CAP_SMD_MLCC_C0201_(M0603) (CHIP Capacitor, 0.5x0.25mm)
footprint CAP_SMD_MLCC_C0402A_(M1005A) (CHIP Capacitor, 1.0x0.5mm, 0402, for PCBA)
footprint CAP_SMD_MLCC_C0402_(M1005) (CHIP Capacitor, 1.0x0.5mm, 0402)
footprint CAP_SMD_MLCC_C0603A_(M1608A) (CHIP Capacitor, 1.6x0.8mm, 0603 for PCBA)
footprint CAP_SMD_MLCC_C0603_(M1608) (CHIP Capacitor, 1.6x0.8mm, 0603)
footprint CAP_SMD_MLCC_C0805A_(M2012A) (CHIP Capacitor, 2.0X1.3mm, 0805, for PCBA)
footprint CAP_SMD_MLCC_C0805_(M2012) (CHIP Capacitor, 2.0X1.3mm, 0805)
footprint CAP_SMD_MLCC_C1206A_(M3216A) (CHIP Capacitor, 3.2X1.6mm, 1206, for PCBA)
footprint CAP_SMD_MLCC_C1206_(M3216) (CHIP Capacitor, 3.2X1.6mm, 1206)
footprint CAP_SMD_MLCC_C1812_(M4532) (Chip Capacitor, 4.5x3.2mm, 1812)
footprint CAP_SMD_MLCC_C1210_(M3225) (CHIP Capacitor, 3.2X2.5mm, 1210, 3225)
footprint CAP_SMD_MLCC_C0603_(M1608)_C0402A_(M1005A) (Resistor, SMD, 1.6x0.8mm, 0603)
pins: 1, 2

## CAP_SMD_TAN_47UF_6.3V
designator C?, comment 47uF
Capacitor, Tantalum, SMD, 47uF, 6.3V, ±10%, Tantalum Capacitors, ROHS; Value: 47uF
footprint CAP_SMD_TAN_2012_CASE-P (CAPACITOR, TAN N, TAN P, TAN R, 0805P, 2x1.3mm)
footprint CAP_SMD_TAN_3216_CASE-A (CAPACITOR, TAN A, 1206P, 3.2x1.6mm)
footprint CAP_SMD_TAN_3528_CASE-B (CAPACITOR, TAN B, TAN H, TAN T, TAN M, 3528P, 1210P, 3.5x2.8mm)
footprint CAP_SMD_TAN_6032_CASE-C (CAPACITOR, TAN C, TAN F, TAN U, TAN L, 6032P, 6.0x3.2mm)
footprint CAP_SMD_TAN_7343_CASE-D (CAPACITOR, TAN D, TAN E, TAN Y, TAN X, 7343P, 7.3x4.3mm)
footprint CAP_SMD_TAN_7361_CASE-V (CAPACITOR, TAN V, 2924, 7361, 7.3x6.1mm)
pins: 1, 2

## CAP_SMD_TAN_100UF_6.3V
designator C?, comment 100uF
Capacitor, Tantalum, SMD, 100uF, 6.3V, ±10%, Tantalum Capacitors, ROHS; Value: 100uF
footprint CAP_SMD_TAN_3216_CASE-A (CAPACITOR, TAN A, 1206P, 3.2x1.6mm)
footprint CAP_SMD_TAN_3528_CASE-B (CAPACITOR, TAN B, TAN H, TAN T, TAN M, 3528P, 1210P, 3.5x2.8mm)
footprint CAP_SMD_TAN_6032_CASE-C (CAPACITOR, TAN C, TAN F, TAN U, TAN L, 6032P, 6.0x3.2mm)
footprint CAP_SMD_TAN_7343_CASE-D (CAPACITOR, TAN D, TAN E, TAN Y, TAN X, 7343P, 7.3x4.3mm)
footprint CAP_SMD_TAN_7361_CASE-V (CAPACITOR, TAN V, 2924, 7361, 7.3x6.1mm)
footprint CAP_SMD_TAN_3216_CASE-A_SMA (CAPACITOR, TAN A, 1206P, 3.2x1.6mm)
pins: 1, 2

## CAP_THD_CER_0.1UF_50V
designator C?, comment 0.1uF
Capacitor, Ceramic, Through Hole, 50V, 100nF, X7R, ±10%, P=2.54mm, Ceramic Capacitors, RoHS; Part Number: GRM319R61A105KA01D; Manufacturer: Murata Electronics North America; Factory Stock: 0; Unit Price (USD): 0.28; Minimum Quantity: 1; Voltage: 10V; Temperature Coefficient: X5R; Datasheets: http://www.murata.com/~/media/webrenewal/support/library/catalog/products/capacitor/mlcc/c02e.pdf; Image: //media.digikey.com/Renders/Murata%20Renders/GR331BD72E473KW01L.jpg; Digi-Key Part Number: 490-11607-1-ND; Quantity Available: 3593; @ qty: 0; Packaging: Cut Tape (CT); Series: GRM; Part Status: Active; Value: 0.1uF; Tolerance: ±10%; Operating Temperature: -55°C ~ 85°C; Features: -; Ratings: -; Applications: General Purpose; Mounting Type: Surface Mount, MLCC; Package / Case: -; Size / Dimension: -; Height - Seated (Max): -; Thickness (Max): -; Lead Spacing: -; Lead Style: -
footprint CAP_THD_CERML (Multilayer Ceramic Capacitor MLCC 50V dc ±10% , Through Hole)
pins: 1, 2

## CAP_THD_ELEC_ALUM_4.7UF_400V
designator C?, comment 4.7uF
Capacitor, Aluminum Electrolytic Capacitor, Through Hole, D6.3xL12mm, 4.7uF, 400V, ±20%, Aluminum Electrolytic Capacitors - Leaded, ROHS; Value: 4.7uF
footprint CAP_THD_ELEC_ALUM_D8.0MM_H12.5MM_SHORT (8MM Diameter, 3.5MM Lead Spacing Aluminium Capacitor)
footprint CAP_THD_ELEC_ALUM_D8.0MM_H12.5MM (8MM Diameter, 3.5MM Lead Spacing Aluminium Capacitor)
footprint CAP_THD_ELEC_ALUM_D8.0MM_H12.5MM_SHORT _SMD_C1828_#1 (8MM Diameter, 3.5MM Lead Spacing Aluminium Capacitor)
footprint CAP_THD_ELEC_ALUM_D8.0MM_H12.5MM_SHORT _SMD_C1828_#2 (8MM Diameter, 3.5MM Lead Spacing Aluminium Capacitor)
footprint CAP_THD_ELEC_ALUM_D8.0MM_H12.5MM_SHORT _SMD_C1828_#3 (8MM Diameter, 3.5MM Lead Spacing Aluminium Capacitor)
footprint CAP_THD_ELEC_ALUM_D8.0MM_H12.5MM_SHORT _SMD_C1828_#3_THD (8MM Diameter, 3.5MM Lead Spacing Aluminium Capacitor)
pins: 1, 2

## CAP_THD_ELEC_ALUM_100UF_6.3V
designator C?, comment 100uF
Capacitor, Aluminum Electrolytic Capacitor, Through Hole, D4xL7mm, 100uF, 6.3V, ±20%, Aluminum Electrolytic Capacitors - Leaded, ROHS; Value: 100uF
footprint CAP_THD_ELEC_ALUM_D4.0MM_H7.0MM (4mm Diameter 1.5mm Lead Spacing Aluminum Electrolytic Capacitors Radial, Can)
footprint CAP_THD_ELEC_ALUM_D4.0MM_H7.0MM_WITH_SMD (4mm Diameter 1.5mm Lead Spacing Aluminum Electrolytic Capacitors Radial, Can)
pins: 1, 2